# EAGLE library part 2X3 (library headers(.1in)(samtec))
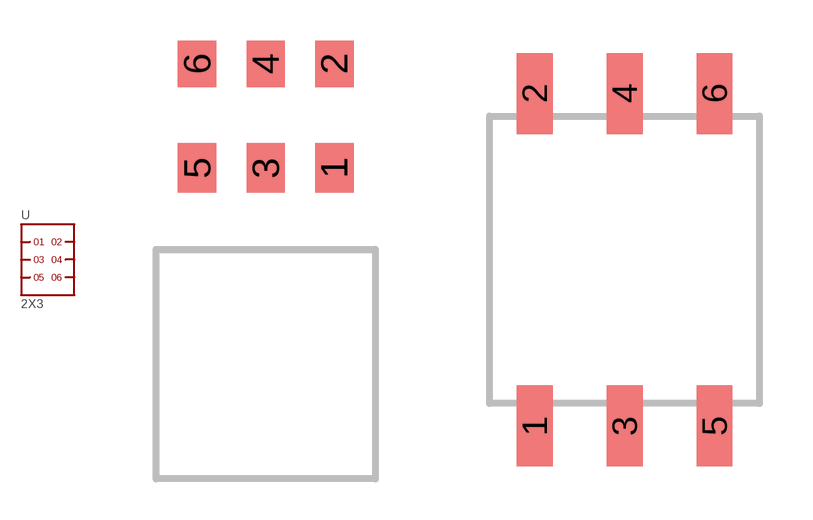
[diagram p2: symbol with the pads of SMH-103-XX-X-D; footprints SMH-103-XX-X-D, SSM-103-XXX-DH]

Designator prefix -

## 2X3.SMH.D  [SMH-103-XX-X-D]
1  1
2  2
3  3
4  4
5  5
6  6

## 2X3.SSM.DH  [SSM-103-XXX-DH]
Pads as for SMH-103-XX-X-D

## 2X3.SSW.D  [SSW-103-XX-X-D]
Pads as for SMH-103-XX-X-D

## 2X3.TSM.DV  [TSM-103-XX-XXX-DV-A]
Pads as for SMH-103-XX-X-D

## Footprint SMH-103-XX-X-D (pad centres in mm)
Dual Row Horizontal, Surface Mount, 0.100 inch Pitch, 6Pins,Socket Assembly
smd 1.422 x 1.829: 1 2.54,0; 3 0,0; 5 -2.54,0
smd 1.422 x 1.727: 2 2.54,3.861; 4 0,3.861; 6 -2.54,3.861

## Footprint SSM-103-XXX-DH (pad centres in mm)
smd 1.016 x 2.286: 1 -2.54,-4.699; 2 -2.54,4.699; 3 0,-4.699; 4 0,4.699; 5 2.54,-4.699; 6 2.54,4.699

## Footprint SSW-103-XX-X-D (pad centres in mm)
drill 1.2: 1 -2.54,-1.27; 2 -2.54,1.27; 3 0,-1.27; 4 0,1.27; 5 2.54,-1.27; 6 2.54,1.27

## Footprint TSM-103-XX-XXX-DV-A (pad centres in mm)
Terminal Strip, Dual Row Vertical, Surface Mount, 0.100 inch Pitch, 10 Pins
smd 1.27 x 3.683: 1 -2.54,-2.477; 2 -2.54,2.477; 3 0,-2.477; 4 0,2.477; 5 2.54,-2.477; 6 2.54,2.477